# EAGLE library part MAX629 (library andereBauteile)
MAX629 28V, Low-Power, High-Voltage, Boost or Inverting DC-DC Converter
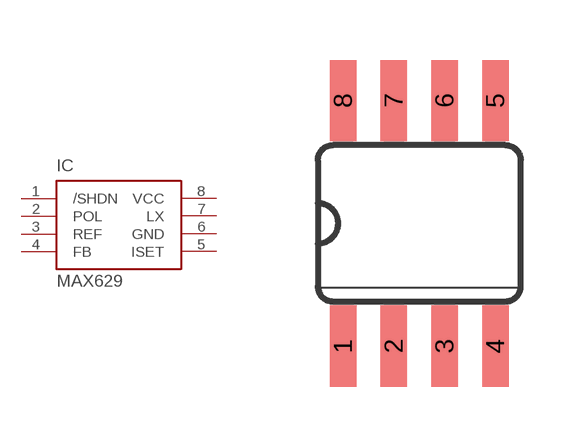
[diagram p8: symbol with the pads of SO08; footprint SO08]

Designator prefix IC

## MAX629  [SO08]
1  /SHDN
2  POL
3  REF
4  FB
5  ISET
6  GND
7  LX
8  VCC

## Footprint SO08 (pad centres in mm)
smd 0.66 x 2.032: 1 -1.905,-3.073; 2 -0.635,-3.073; 3 0.635,-3.073; 4 1.905,-3.073; 5 1.905,3.073; 6 0.635,3.073; 7 -0.635,3.073; 8 -1.905,3.073